# EAGLE library part ADG1609 (library scono)
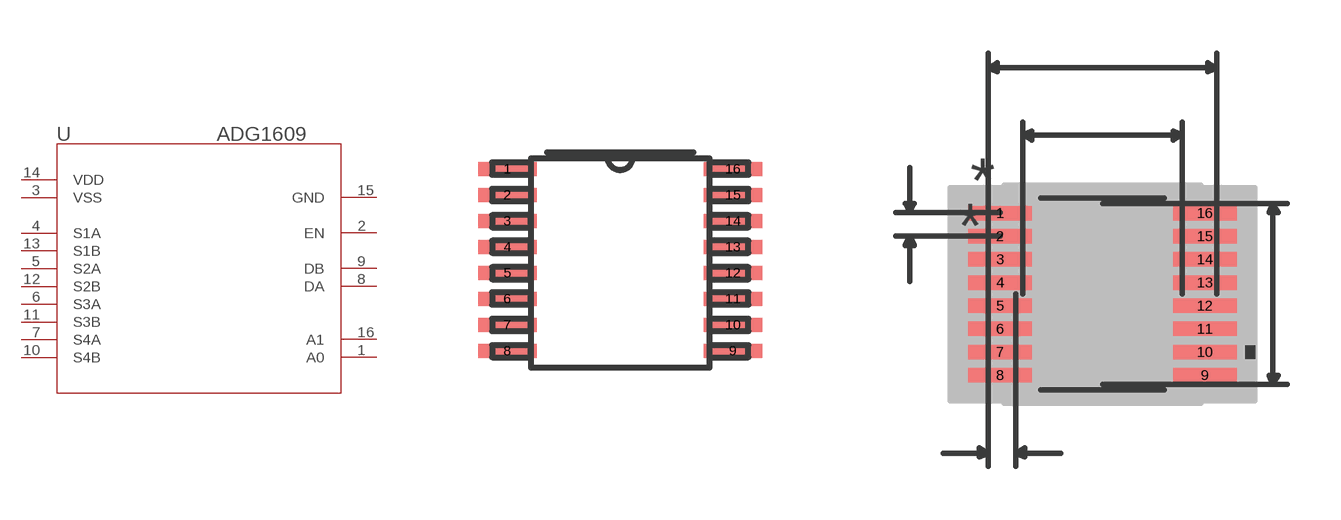
[diagram p51: symbol with the pads of RU_16; footprints RU_16, RU_16-M]

Designator prefix U

## ADG1609 (MANUFACTURER_PART_NUMBER: ADG1609BRUZ; VENDOR: Analog Devices Inc)  [RU_16]
1  A0  pas
2  EN  pas
3  VSS  pas
4  S1A  pas
5  S2A  pas
6  S3A  pas
7  S4A  pas
8  DA  pas
9  DB  pas
10  S4B  pas
11  S3B  pas
12  S2B  pas
13  S1B  pas
14  VDD  pas
15  GND  pas
16  A1  pas

## ADG1609RU_16-M (MANUFACTURER_PART_NUMBER: ADG1609BRUZ; VENDOR: Analog Devices Inc)  [RU_16-M]
Pads as for RU_16

## ADG1609RU_16-L (MANUFACTURER_PART_NUMBER: ADG1609BRUZ; VENDOR: Analog Devices Inc)  [RU_16-L]
Pads as for RU_16

## Footprint RU_16 (pad centres in mm)
smd 1.473 x 0.356: 1 -2.819,2.275; 2 -2.819,1.625; 3 -2.819,0.975; 4 -2.819,0.325; 5 -2.819,-0.325; 6 -2.819,-0.975; 7 -2.819,-1.625; 8 -2.819,-2.275; 9 2.819,-2.275; 10 2.819,-1.625; 11 2.819,-0.975; 12 2.819,-0.325; 13 2.819,0.325; 14 2.819,0.975; 15 2.819,1.625; 16 2.819,2.275

## Footprint RU_16-M (pad centres in mm)
smd 1.778 x 0.406: 1 -2.87,2.275; 2 -2.87,1.625; 3 -2.87,0.975; 4 -2.87,0.325; 5 -2.87,-0.325; 6 -2.87,-0.975; 7 -2.87,-1.625; 8 -2.87,-2.275; 9 2.87,-2.275; 10 2.87,-1.625; 11 2.87,-0.975; 12 2.87,-0.325; 13 2.87,0.325; 14 2.87,0.975; 15 2.87,1.625; 16 2.87,2.275

## Footprint RU_16-L (pad centres in mm)
smd 1.168 x 0.305: 1 -2.769,2.275; 2 -2.769,1.625; 3 -2.769,0.975; 4 -2.769,0.325; 5 -2.769,-0.325; 6 -2.769,-0.975; 7 -2.769,-1.625; 8 -2.769,-2.275; 9 2.769,-2.275; 10 2.769,-1.625; 11 2.769,-0.975; 12 2.769,-0.325; 13 2.769,0.325; 14 2.769,0.975; 15 2.769,1.625; 16 2.769,2.275